# EAGLE library part 693070010811 (library WR-CRD)
WR-CRD SD Card Connectors Characteristics Available in two form factors: SD and MicroSD Available in three entry types: Push-Pull, Hinge and Push-Push SD 4.0 available in SD form factor for higher transfer speed Applications Single-board computers Surveillance systems Industrial data logging Consumer Electronics Drones <https://www.we-online.com/components/media/o32845v209%20Family_ConCRD_693071010811.jpg> Details see: www.we-online.com/components/products/WR-CRD_CARD_CONNECTORS_SD2 <www.we-online.com/catalog/WR-CRD_CARD_CONNECTORS_SD2/?utm_source=eagle_model&utm_medium=description_link&utm_campaign=eisos_eagle> Created by Ella Wu 2025-04-28 2025 (C) Würth Elektronik
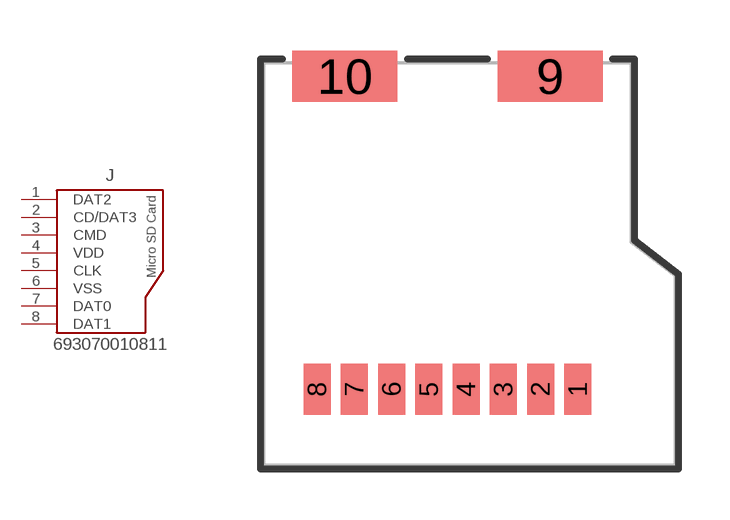
[diagram p5: symbol with the pads of 693070010811; footprint 693070010811]

Designator prefix J

## 693070010811 (DATASHEET-URL: https://www.we-online.com/redexpert/spec/693070010811?ae; DURABILITY: 10000 Mating cycles; GERDER: Receptacle; MOUNT: SMT; PART-NUMBER: 693070010811; PINS: 8pcs; SIZE: Micro SD; TYPE: Push & Pull; VALUE: 693070010811)  [693070010811]
1  DAT2  pas
2  CD/DAT3  pas
3  CMD  pas
4  VDD  pas
5  CLK  pas
6  VSS  pas
7  DAT0  pas
8  DAT1  pas

## Footprint 693070010811 (pad centres in mm)
smd 0.8 x 1.5: 1 3.85,0; 2 2.75,0; 3 1.65,0; 4 0.55,0; 5 -0.55,0; 6 -1.65,0; 7 -2.75,0; 8 -3.85,0
smd 3.1 x 1.5: 9 3.03,9.25; 10 -3.03,9.25